# Altium schematic symbol library KLibrary.SchLib: 1 symbol
Pins are listed as number, name and electrical type; pins without a type are passive.

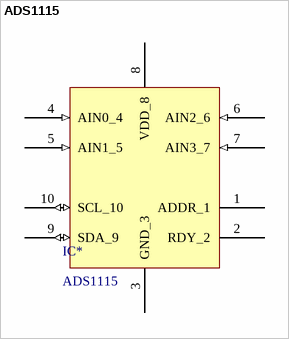
[diagram p0: symbol ADS1115]

## ADS1115
designator IC*
vendor: TI
footprint 1X10-BIG
pins: 1 ADDR_1, 2 RDY_2 "ALERT/RDY", 3 GND_3 (power), 4 AIN0_4 (in), 5 AIN1_5 (in), 6 AIN2_6 (in), 7 AIN3_7 (in), 8 VDD_8 (power), 9 SDA_9 (io), 10 SCL_10 (io)